# EAGLE library part SIL-9 (library n64-rgb-dac)
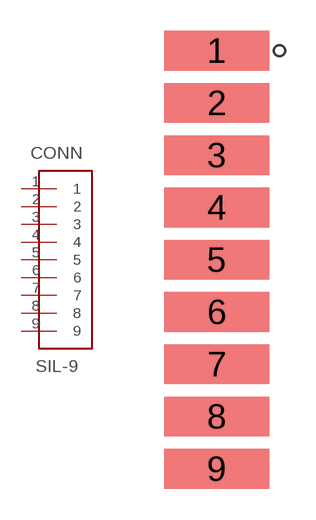
[diagram p3: symbol with the pads of SIL-SMD-9; footprint SIL-SMD-9]

Designator prefix CONN

## SIL-9  [SIL-SMD-9]
1  1
2  2
3  3
4  4
5  5
6  6
7  7
8  8
9  9

## Footprint SIL-SMD-9 (pad centres in mm)
smd 5.08 x 1.93: 1 0,10.16; 2 0,7.62; 3 0,5.08; 4 0,2.54; 5 0,0; 6 0,-2.54; 7 0,-5.08; 8 0,-7.62; 9 0,-10.16